# EAGLE library part SPARKFUN_ARDUINO_SERIAL_PROGRAM (library MobSenDat2)
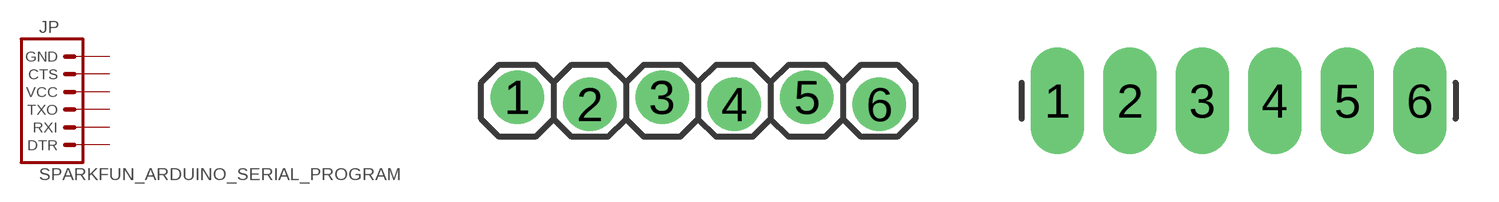
[diagram p1: symbol with the pads of SPARKFUN_1X06_LOCK; footprints SPARKFUN_1X06_LOCK, SPARKFUN_1X06_LONGPADS]

Designator prefix JP

## SPARKFUN_ARDUINO_SERIAL_PROGRAMLOCK  [SPARKFUN_1X06_LOCK]
1  DTR  pas
2  RXI  pas
3  TXO  pas
4  VCC  pas
5  CTS  pas
6  GND  pas

## SPARKFUN_ARDUINO_SERIAL_PROGRAMLONGPADS  [SPARKFUN_1X06_LONGPADS]
Pads as for SPARKFUN_1X06_LOCK

## SPARKFUN_ARDUINO_SERIAL_PROGRAMPTH  [SPARKFUN_1X06]
Pads as for SPARKFUN_1X06_LOCK

## SPARKFUN_ARDUINO_SERIAL_PROGRAMRA_LOCK  [SPARKFUN_MOLEX-1X6-RA_LOCK]
1  GND  pas
2  CTS  pas
3  VCC  pas
4  TXO  pas
5  RXI  pas
6  DTR  pas

## SPARKFUN_ARDUINO_SERIAL_PROGRAMSMD  [SPARKFUN_1X06-SMD]
Pads as for SPARKFUN_1X06_LOCK

## Footprint SPARKFUN_1X06_LOCK (pad centres in mm)
drill 1.016 pad 1.88 round: 1 0,0; 2 2.54,-0.254; 3 5.08,0; 4 7.62,-0.254; 5 10.16,0; 6 12.7,-0.254

## Footprint SPARKFUN_1X06_LONGPADS (pad centres in mm)
drill 1.016 pad 1.88 long: 1 0,0; 2 2.54,0; 3 5.08,0; 4 7.62,0; 5 10.16,0; 6 12.7,0

## Footprint SPARKFUN_1X06 (pad centres in mm)
drill 1.016 pad 1.88 round: 1 0,0; 2 2.54,0; 3 5.08,0; 4 7.62,0; 5 10.16,0; 6 12.7,0

## Footprint SPARKFUN_MOLEX-1X6-RA_LOCK (pad centres in mm)
drill 1.016 pad 1.88 square: 1 0,0.127
drill 1.016 pad 1.88 round: 2 2.54,-0.127; 3 5.08,0.127; 4 7.62,-0.127; 5 10.16,0.127; 6 12.7,-0.127

## Footprint SPARKFUN_1X06-SMD (pad centres in mm)
smd 1 x 3: 1 -6.35,5; 2 -3.81,5; 3 -1.27,5; 4 1.27,5; 5 3.81,5; 6 6.35,5
hole 1.4 at -5.08,0
hole 1.4 at 5.08,0